# Altium schematic symbol library PTS645SH43SMTR92LFS.SchLib: 1 symbol
Pins are listed as number, name and electrical type; pins without a type are passive.

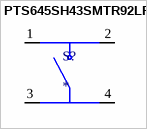
[diagram p0: symbol PTS645SH43SMTR92LFS]

## PTS645SH43SMTR92LFS
designator S?
Switch Tactile N.O.SPST Round Button Gull Wing 0.05A 12VDC 100000Cycles 1.96N SMD T/R; MF: C&K Components; MP: PTS645SH43SMTR92LFS; SnapEDA_Link: https://www.snapeda.com/parts/PTS645SH43SMTR92LFS/C%2526K/view-part/?ref=snap; Package: NON-STANDARD-4 C&amp;K; Value: *; Check_prices: https://www.snapeda.com/parts/PTS645SH43SMTR92LFS/C%2526K/view-part/?ref=eda
footprint SW_PTS645SH43SMTR92LFS
pins: 1, 2, 3, 4